# Altium schematic symbol library WP-SHFU.SchLib: 7 symbols
Pins are listed as number, name and electrical type; pins without a type are passive.

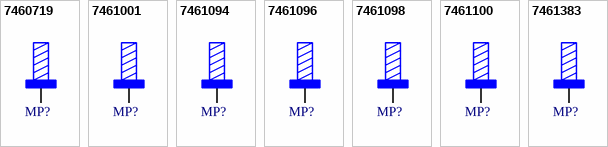
[diagram p0: symbols 7460719 to 7461383]

## 7460719
designator MP?, comment M8 x 13mm  (value not drawn)
WP-SHFU REDCUBE PRESS-FIT with external thread, L13W13H20.5mm, M8 x 13mm, 250A; Manufacturer Part Number: 7460719; Manufacturer: Wurth Elektronik; Surface: Tin; ComponentLink1Description: Website Link; ComponentLink1URL: https://www.we-online.com/redexpert/article/7460719?ad; ComponentLink2Description: Datasheet Link; ComponentLink2URL: https://www.we-online.com/redexpert/spec/7460719?ad; Category: REDCUBE PRESS-FIT; Match Code: WP-SHFU; Mount: Press Fit; Operating Temperature Max: 150°C; Operating Temperature Min: -55°C; Packaging: Bulk; Length: 13mm; Width: 13mm; Height: 20.5mm; Material: Brass; Number of Pins: 25; Rated Current: 250A; Thread Length: 13mm; Thread Size: M8
footprint 7460719_chemical surface
footprint 7460719_HAL
pins: 1

## 7461001
designator MP?, comment M5 x 8mm  (value not drawn)
WP-SHFU REDCUBE PRESS-FIT with external thread, L7W7H12mm, M5 x 8mm, 130A; Manufacturer Part Number: 7461001; Manufacturer: Wurth Elektronik; Surface: Tin; ComponentLink1Description: Website Link; ComponentLink1URL: https://www.we-online.com/redexpert/article/7461001?ad; ComponentLink2Description: Datasheet Link; ComponentLink2URL: https://www.we-online.com/redexpert/spec/7461001?ad; Category: REDCUBE PRESS-FIT; Match Code: WP-SHFU; Mount: Press Fit; Operating Temperature Max: 150°C; Operating Temperature Min: -55°C; Packaging: Bulk; Length: 7mm; Width: 7mm; Height: 12mm; Material: Brass; Number of Pins: 9; Rated Current: 130A; Thread Length: 8mm; Thread Size: M5
footprint 7461001_chemical surface
footprint 7461001_HAL
pins: 1

## 7461094
designator MP?, comment M3 x 5mm  (value not drawn)
WP-SHFU REDCUBE PRESS-FIT with external thread, L7W7H7.5mm, M3 x 5mm, 130A; Manufacturer Part Number: 7461094; Manufacturer: Wurth Elektronik; Surface: Tin; ComponentLink1Description: Website Link; ComponentLink1URL: https://www.we-online.com/redexpert/article/7461094?ad; ComponentLink2Description: Datasheet Link; ComponentLink2URL: https://www.we-online.com/redexpert/spec/7461094?ad; Category: REDCUBE PRESS-FIT; Match Code: WP-SHFU; Mount: Press Fit; Operating Temperature Max: 150°C; Operating Temperature Min: -55°C; Packaging: Bulk; Length: 7mm; Width: 7mm; Height: 7.5mm; Material: Brass; Number of Pins: 9; Rated Current: 130A; Thread Length: 5mm; Thread Size: M3
footprint 7461094_chemical surface
footprint 7461094_HAL
pins: 1

## 7461096
designator MP?, comment M4 x 6mm  (value not drawn)
WP-SHFU REDCUBE PRESS-FIT with external thread, L7W7H9mm, M4 x 6mm, 130A; Manufacturer Part Number: 7461096; Manufacturer: Wurth Elektronik; Surface: Tin; ComponentLink1Description: Website Link; ComponentLink1URL: https://www.we-online.com/redexpert/article/7461096?ad; ComponentLink2Description: Datasheet Link; ComponentLink2URL: https://www.we-online.com/redexpert/spec/7461096?ad; Category: REDCUBE PRESS-FIT; Match Code: WP-SHFU; Mount: Press Fit; Operating Temperature Max: 150°C; Operating Temperature Min: -55°C; Packaging: Bulk; Length: 7mm; Width: 7mm; Height: 9mm; Material: Brass; Number of Pins: 9; Rated Current: 130A; Thread Length: 6mm; Thread Size: M4
footprint 7461096_chemical surface
footprint 7461096_HAL
pins: 1

## 7461098
designator MP?, comment M6 x 10mm  (value not drawn)
WP-SHFU REDCUBE PRESS-FIT with external thread, L13W13H15.5mm, M6 x 10mm, 250A; Manufacturer Part Number: 7461098; Manufacturer: Wurth Elektronik; Surface: Tin; ComponentLink1Description: Website Link; ComponentLink1URL: https://www.we-online.com/redexpert/article/7461098?ad; ComponentLink2Description: Datasheet Link; ComponentLink2URL: https://www.we-online.com/redexpert/spec/7461098?ad; Category: REDCUBE PRESS-FIT; Match Code: WP-SHFU; Mount: Press Fit; Operating Temperature Max: 150°C; Operating Temperature Min: -55°C; Packaging: Bulk; Length: 13mm; Width: 13mm; Height: 15.5mm; Material: Brass; Number of Pins: 25; Rated Current: 250A; Thread Length: 10mm; Thread Size: M6
footprint 7461098_chemical surface
footprint 7461098_HAL
pins: 1

## 7461100
designator MP?, comment M10 x 16mm  (value not drawn)
WP-SHFU REDCUBE PRESS-FIT with external thread, L16W16H24mm, M10 x 16mm, 350A; Manufacturer Part Number: 7461100; Manufacturer: Wurth Elektronik; Surface: Tin; ComponentLink1Description: Website Link; ComponentLink1URL: https://www.we-online.com/redexpert/article/7461100?ad; ComponentLink2Description: Datasheet Link; ComponentLink2URL: https://www.we-online.com/redexpert/spec/7461100?ad; Category: REDCUBE PRESS-FIT; Match Code: WP-SHFU; Mount: Press Fit; Operating Temperature Max: 150°C; Operating Temperature Min: -55°C; Packaging: Bulk; Length: 16mm; Width: 16mm; Height: 24mm; Material: Brass; Number of Pins: 36; Rated Current: 350A; Thread Length: 16mm; Thread Size: M10
footprint 7461100_chemical surface
footprint 7461100_HAL
pins: 1

## 7461383
designator MP?, comment M5 x 8mm  (value not drawn)
WP-SHFU REDCUBE PRESS-FIT with external thread, L9W9H12.5mm, M5 x 8mm, 180A; Manufacturer Part Number: 7461383; Manufacturer: Wurth Elektronik; Surface: Tin; ComponentLink1Description: Website Link; ComponentLink1URL: https://www.we-online.com/redexpert/article/7461383?ad; ComponentLink2Description: Datasheet Link; ComponentLink2URL: https://www.we-online.com/redexpert/spec/7461383?ad; Category: REDCUBE PRESS-FIT; Match Code: WP-SHFU; Mount: Press Fit; Operating Temperature Max: 150°C; Operating Temperature Min: -55°C; Packaging: Bulk; Length: 9mm; Width: 9mm; Height: 12.5mm; Material: Brass; Number of Pins: 16; Rated Current: 180A; Thread Length: 8mm; Thread Size: M5
footprint 7461383_chemical surface
footprint 7461383_HAL
pins: 1